# Altium footprint library SSOP28-LD.PcbLib: 1 footprints
Each footprint in its own frame and in the unit in brackets; x right, y up, seen from the top. Pads: shape width x height; smd on the part's side, far side on the other; paste and mask are expansions set on the pad; w line width, h text height; cw(c..) or ccw(c..) is an arc to the next point about the centre after c.
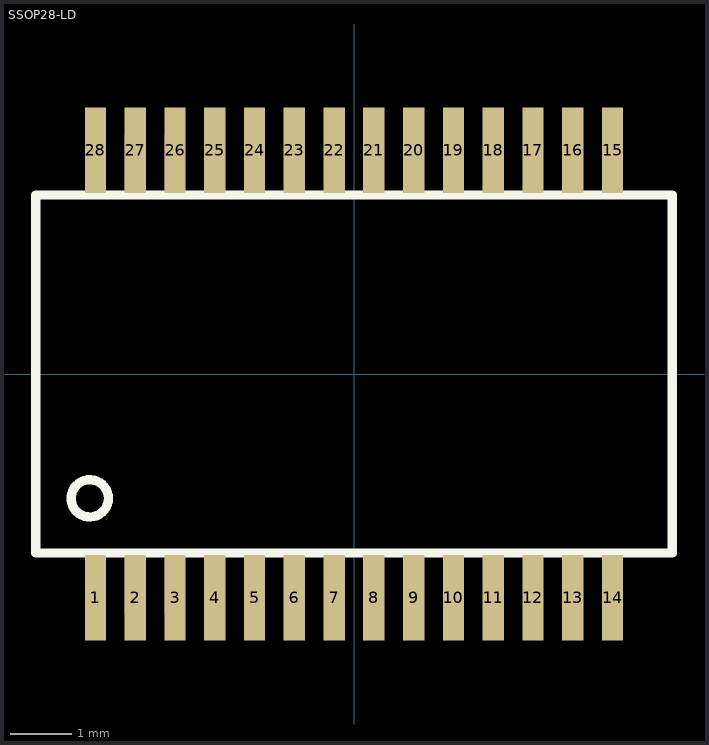
[diagram p0: the footprint, top view; thin cyan lines are the x and y axes]

## SSOP28-LD [mm]
pads (28):
  rect 0.348x1.397 smd: 1(-4.225,-3.656) 2(-3.575,-3.656) 3(-2.925,-3.656) 4(-2.275,-3.656) 5(-1.625,-3.656) 6(-0.975,-3.656) 7(-0.325,-3.656) 8(0.325,-3.656) 9(0.975,-3.656) 10(1.625,-3.656) 11(2.275,-3.656) 12(2.925,-3.656) 13(3.575,-3.656) 14(4.225,-3.656) 15(4.225,3.656) 16(3.575,3.656) 17(2.925,3.656) 18(2.275,3.656) 19(1.625,3.656) 20(0.975,3.656) 21(0.325,3.656) 22(-0.325,3.656) 23(-0.975,3.656) 24(-1.625,3.656) 25(-2.275,3.656) 26(-2.925,3.656) 27(-3.575,3.656) 28(-4.225,3.656)
Top Overlay:
  circle w0.152: c-4.318,-2.032 r0.305
  lines w0.152: -5.2,-2.925 5.2,-2.925 5.2,2.925 -5.2,2.925 -5.2,-2.925
Mechanical 13:
  region: -4.062,2.971 -4.396,2.971 -4.396,3.9 -4.062,3.9
  region: -4.062,-3.905 -4.393,-3.905 -4.393,-2.966 -4.062,-2.966
  region: -3.413,-3.908 -3.745,-3.908 -3.745,-2.966 -3.413,-2.966
  region: -2.762,-3.904 -3.091,-3.904 -3.091,-2.966 -2.762,-2.966
  region: -3.413,2.971 -3.744,2.971 -3.744,3.9 -3.413,3.9
  region: -2.762,2.969 -3.092,2.969 -3.092,3.9 -2.762,3.9
  region: -2.113,2.97 -2.442,2.97 -2.442,3.9 -2.113,3.9
  region: -1.462,2.974 -1.792,2.974 -1.792,3.9 -1.462,3.9
  region: -0.813,2.967 -1.138,2.967 -1.138,3.9 -0.813,3.9
  region: -0.162,2.97 -0.488,2.97 -0.488,3.9 -0.162,3.9
  region: 0.487,2.972 0.163,2.972 0.163,3.9 0.487,3.9
  region: 1.138,2.975 0.815,2.975 0.815,3.9 1.138,3.9
  region: 1.787,2.974 1.467,2.974 1.467,3.9 1.787,3.9
  region: 2.438,2.973 2.118,2.973 2.118,3.9 2.438,3.9
  region: 3.087,2.976 2.772,2.976 2.772,3.9 3.087,3.9
  region: 3.738,2.97 3.418,2.97 3.418,3.9 3.738,3.9
  region: 4.387,2.97 4.069,2.97 4.069,3.9 4.387,3.9
  region: -2.113,-3.901 -2.438,-3.901 -2.438,-2.966 -2.113,-2.966
  region: -1.462,-3.905 -1.79,-3.905 -1.79,-2.966 -1.462,-2.966
  region: -0.813,-3.902 -1.138,-3.902 -1.138,-2.966 -0.813,-2.966
  region: -0.162,-3.909 -0.489,-3.909 -0.489,-2.966 -0.162,-2.966
  region: 0.487,-3.905 0.163,-3.905 0.163,-2.966 0.487,-2.966
  region: 1.138,-3.906 0.814,-3.906 0.814,-2.966 1.138,-2.966
  region: 1.787,-3.909 1.466,-3.909 1.466,-2.966 1.787,-2.966
  region: 2.438,-3.907 2.117,-3.907 2.117,-2.966 2.438,-2.966
  region: 3.087,-3.911 2.77,-3.911 2.77,-2.966 3.087,-2.966
  region: 3.738,-3.909 3.42,-3.909 3.42,-2.966 3.738,-2.966
  region: 4.387,-3.903 4.065,-3.903 4.065,-2.966 4.387,-2.966
3D body "step_temp.STEP": height 2, standoff 0, extent -3.9,-5.1 3.9,5.1